# Altium schematic symbol library pwr8.SchLib: 2 symbols
Pins are listed as number, name and electrical type; pins without a type are passive.

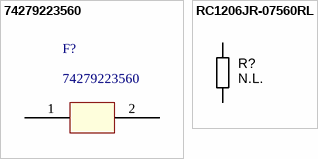
[diagram p0: symbols 74279223560 to RC1206JR-07560RL]

## 74279223560
designator F?
Wurth 74279223560 Ferrite Bead 4000 uohm 10Amps
footprint 74279223560 (WURTH ELEKTRONIK  74279223560  FERRITE BEAD, 4000UOHM, 10A, 1612)
pins: 1, 2

## RC1206JR-07560RL
designator R?, comment value N.L.  (hidden comment: 560 Ohm .25 1206)
Resistor, SMD chip RC1206JR-07560RL RES SMD 560 OHM 5% 1/4W 1206; Package / Case: 1206 (3216 metric)
footprint RESC3216X70N (Chip Resistor, Body 3.2x1.6mm, 1206, IPC Medium Density)
pins: 1, 2